# Altium integrated library 2N3906.IntLib: 1 symbol
Pins are listed as number, name and electrical type; pins without a type are passive.

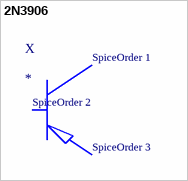
[diagram p0: symbol 2N3906]

## 2N3906
designator X
Bipolar _BJT_ Transistor PNP 40V 200mA 250MHz 625mW Through Hole TO-92; MP: 2N3906; MF: Diotec Semiconductor; Package: TO-226-3 Diotec Semiconductor; Availability: Unavailable; Value: *; SnapEDA_Link: https://www.snapeda.com/parts/2N3906/Diotec/view-part/4593480/?ref=snap; Price: None
footprint TO92
pins: 1 C, 2 B, 3 E
text: SpiceOrder 1; SpiceOrder 2; SpiceOrder 3